# EAGLE library part BOARD_EDGE_12PIN (library SSI)
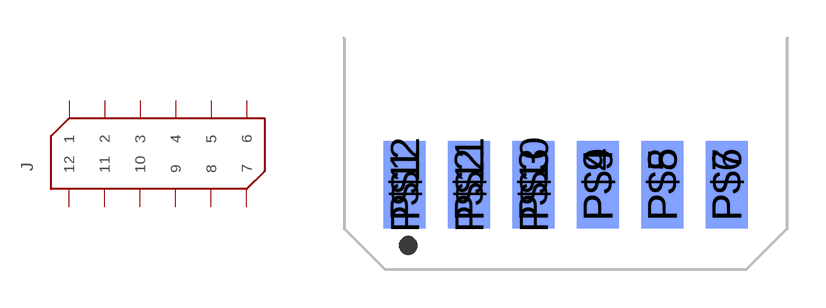
[diagram p18: symbol with the pads of BOARD_EDGE_12PIN; footprint BOARD_EDGE_12PIN]

Designator prefix J

## BOARD_EDGE_12PIN  [BOARD_EDGE_12PIN]
P$1  1
P$2  2
P$3  3
P$4  4
P$5  5
P$6  6
P$7  7
P$8  8
P$9  9
P$10  10
P$11  11
P$12  12

## Footprint BOARD_EDGE_12PIN (pad centres in mm)
Board Edge Connector - 12 Pin http://www.digikey.com/product-detail/en/7-5530843-6/7-5530843-6-ND/2259133
smd 1.651 x 3.454: P$1 2.4,3.353; P$2 4.94,3.353; P$3 7.48,3.353; P$4 10.02,3.353; P$5 12.56,3.353; P$6 15.1,3.353
smd 1.651 x 3.454 bottom: P$7 15.1,3.353; P$8 12.56,3.353; P$9 10.02,3.353; P$10 7.48,3.353; P$11 4.94,3.353; P$12 2.4,3.353